# EAGLE library part IMS-A100 (library Transputers)
A100 Cascadable signal processor INMOS signal processor for digital image and filtering applications Source: The Digital Signal Processing Databook 1989. INMOS/SGS-Thomson Arto Kyyhkynen, artoky@dlc.fi
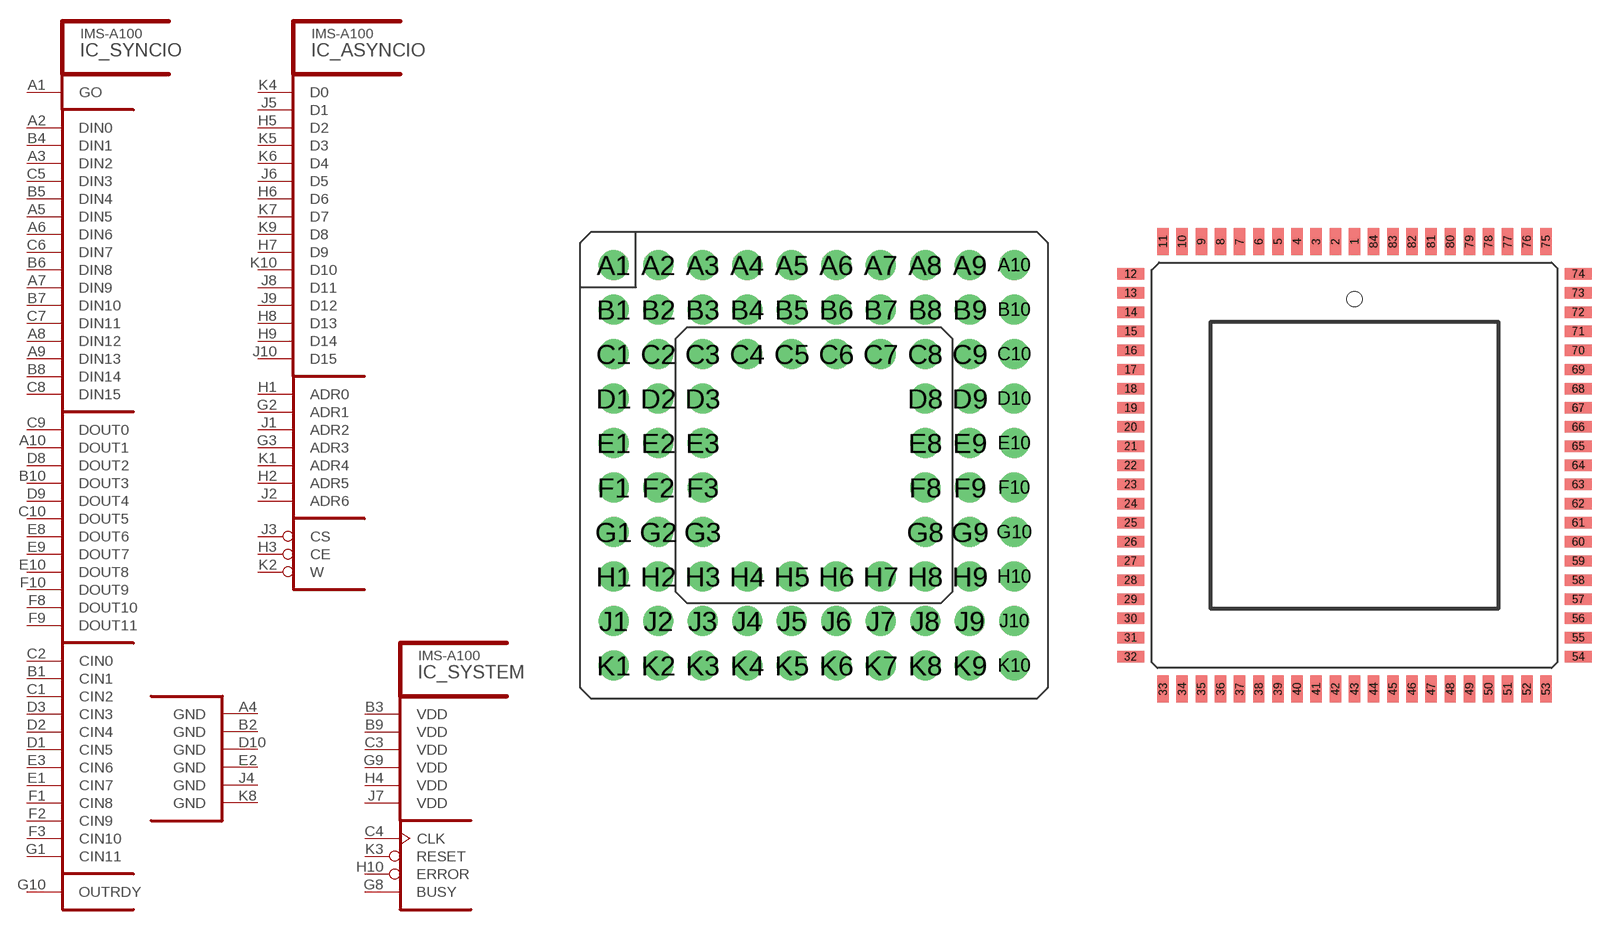
[diagram p28: symbol with the pads of PGA84; footprints PGA84, CLCC84]

Designator prefix IC; gates _ASYNCIO=A100_ASYNCIO _SYNCIO=A100_SYNCIO _SYSTEM=A100_SYSTEM

## IMS-A100M17G, IMS-A100M21G, IMS-A100S21G, IMS-A100S30G  [PGA84]
A1  _SYNCIO:GO
A2  _SYNCIO:DIN0  in
A3  _SYNCIO:DIN2  in
A4  _SYSTEM:GND  pwr
A5  _SYNCIO:DIN5  in
A6  _SYNCIO:DIN6  in
A7  _SYNCIO:DIN9  in
A8  _SYNCIO:DIN12  in
A9  _SYNCIO:DIN13  in
A10  _SYNCIO:DOUT1  out
B1  _SYNCIO:CIN1  in
B2  _SYSTEM:GND  pwr
B3  _SYSTEM:VDD  pwr
B4  _SYNCIO:DIN1  in
B5  _SYNCIO:DIN4  in
B6  _SYNCIO:DIN8  in
B7  _SYNCIO:DIN10  in
B8  _SYNCIO:DIN14  in
B9  _SYSTEM:VDD  pwr
B10  _SYNCIO:DOUT3  out
C1  _SYNCIO:CIN2  in
C2  _SYNCIO:CIN0  in
C3  _SYSTEM:VDD  pwr
C4  _SYSTEM:CLK  in
C5  _SYNCIO:DIN3  in
C6  _SYNCIO:DIN7  in
C7  _SYNCIO:DIN11  in
C8  _SYNCIO:DIN15  in
C9  _SYNCIO:DOUT0  out
C10  _SYNCIO:DOUT5  out
D1  _SYNCIO:CIN5  in
D2  _SYNCIO:CIN4  in
D3  _SYNCIO:CIN3  in
D8  _SYNCIO:DOUT2  out
D9  _SYNCIO:DOUT4  out
D10  _SYSTEM:GND  pwr
E1  _SYNCIO:CIN7  in
E2  _SYSTEM:GND  pwr
E3  _SYNCIO:CIN6  in
E8  _SYNCIO:DOUT6  out
E9  _SYNCIO:DOUT7  out
E10  _SYNCIO:DOUT8  out
F1  _SYNCIO:CIN8  in
F2  _SYNCIO:CIN9  in
F3  _SYNCIO:CIN10  in
F8  _SYNCIO:DOUT10  out
F9  _SYNCIO:DOUT11  out
F10  _SYNCIO:DOUT9  out
G1  _SYNCIO:CIN11  in
G2  _ASYNCIO:ADR1  in
G3  _ASYNCIO:ADR3  in
G8  _SYSTEM:BUSY  out
G9  _SYSTEM:VDD  pwr
G10  _SYNCIO:OUTRDY  out
H1  _ASYNCIO:ADR0  in
H2  _ASYNCIO:ADR5  in
H3  _ASYNCIO:CE  in
H4  _SYSTEM:VDD  pwr
H5  _ASYNCIO:D2
H6  _ASYNCIO:D6
H7  _ASYNCIO:D9
H8  _ASYNCIO:D13
H9  _ASYNCIO:D14
H10  _SYSTEM:ERROR  out
J1  _ASYNCIO:ADR2  in
J2  _ASYNCIO:ADR6  in
J3  _ASYNCIO:CS  in
J4  _SYSTEM:GND  pwr
J5  _ASYNCIO:D1
J6  _ASYNCIO:D5
J7  _SYSTEM:VDD  pwr
J8  _ASYNCIO:D11
J9  _ASYNCIO:D12
J10  _ASYNCIO:D15
K1  _ASYNCIO:ADR4  in
K2  _ASYNCIO:W  in
K3  _SYSTEM:RESET  in
K4  _ASYNCIO:D0
K5  _ASYNCIO:D3
K6  _ASYNCIO:D4
K7  _ASYNCIO:D7
K8  _SYSTEM:GND  pwr
K9  _ASYNCIO:D8
K10  _ASYNCIO:D10

## IMS-A100M21Q, IMS-A100S21Q  [CLCC84]
1  _SYNCIO:CIN8  in
2  _SYNCIO:CIN9  in
3  _SYNCIO:CIN10  in
4  _SYNCIO:CIN11  in
5  _ASYNCIO:ADR0  in
6  _ASYNCIO:ADR1  in
7  _ASYNCIO:ADR2  in
8  _ASYNCIO:ADR3  in
9  _ASYNCIO:ADR4  in
10  _ASYNCIO:ADR5  in
11  _ASYNCIO:ADR6  in
12  _ASYNCIO:CE  in
13  _ASYNCIO:CS  in
14  _ASYNCIO:W  in
15  _SYSTEM:RESET  in
16  _SYSTEM:VDD  pwr
17  _SYSTEM:GND  pwr
18  _ASYNCIO:D0
19  _ASYNCIO:D1
20  _ASYNCIO:D2
21  _ASYNCIO:D3
22  _ASYNCIO:D4
23  _ASYNCIO:D5
24  _ASYNCIO:D6
25  _ASYNCIO:D7
26  _SYSTEM:GND  pwr
27  _SYSTEM:VDD  pwr
28  _ASYNCIO:D8
29  _ASYNCIO:D9
30  _ASYNCIO:D10
31  _ASYNCIO:D11
32  _ASYNCIO:D12
33  _ASYNCIO:D13
34  _ASYNCIO:D14
35  _ASYNCIO:D15
36  _SYSTEM:ERROR  out
37  _SYSTEM:BUSY  out
38  _SYSTEM:VDD  pwr
39  _SYNCIO:OUTRDY  out
40  _SYNCIO:DOUT11  out
41  _SYNCIO:DOUT10  out
42  _SYNCIO:DOUT9  out
43  _SYNCIO:DOUT8  out
44  _SYNCIO:DOUT7  out
45  _SYNCIO:DOUT6  out
46  _SYSTEM:GND  pwr
47  _SYNCIO:DOUT5  out
48  _SYNCIO:DOUT4  out
49  _SYNCIO:DOUT3  out
50  _SYNCIO:DOUT2  out
51  _SYNCIO:DOUT1  out
52  _SYNCIO:DOUT0  out
53  _SYSTEM:VDD  pwr
54  _SYNCIO:DIN15  in
55  _SYNCIO:DIN14  in
56  _SYNCIO:DIN13  in
57  _SYNCIO:DIN12  in
58  _SYNCIO:DIN11  in
59  _SYNCIO:DIN10  in
60  _SYNCIO:DIN9  in
61  _SYNCIO:DIN8  in
62  _SYNCIO:DIN7  in
63  _SYNCIO:DIN6  in
64  _SYNCIO:DIN5  in
65  _SYNCIO:DIN4  in
66  _SYNCIO:DIN3  in
67  _SYSTEM:GND  pwr
68  _SYNCIO:DIN2  in
69  _SYNCIO:DIN1  in
70  _SYNCIO:DIN0  in
71  _SYSTEM:CLK  in
72  _SYNCIO:GO
73  _SYSTEM:VDD  pwr
74  _SYSTEM:GND  pwr
75  _SYSTEM:VDD  pwr
76  _SYNCIO:CIN0  in
77  _SYNCIO:CIN1  in
78  _SYNCIO:CIN2  in
79  _SYNCIO:CIN3  in
80  _SYNCIO:CIN4  in
81  _SYNCIO:CIN5  in
82  _SYSTEM:GND  pwr
83  _SYNCIO:CIN6  in
84  _SYNCIO:CIN7  in

## Footprint PGA84 (pad centres in mm)
Ceramic Pin Grid Array INMOS
drill 1.143 pad 1.676 round: A1 -11.43,11.43; A2 -8.89,11.43; A3 -6.35,11.43; A4 -3.81,11.43; A5 -1.27,11.43; A6 1.27,11.43; A7 3.81,11.43; A8 6.35,11.43; A9 8.89,11.43; A10 11.43,11.43; B1 -11.43,8.89; B2 -8.89,8.89; B3 -6.35,8.89; B4 -3.81,8.89; B5 -1.27,8.89; B6 1.27,8.89; B7 3.81,8.89; B8 6.35,8.89; B9 8.89,8.89; B10 11.43,8.89; C1 -11.43,6.35; C2 -8.89,6.35; C3 -6.35,6.35; C4 -3.81,6.35; C5 -1.27,6.35; C6 1.27,6.35; C7 3.81,6.35; C8 6.35,6.35; C9 8.89,6.35; C10 11.43,6.35; D1 -11.43,3.81; D2 -8.89,3.81; D3 -6.35,3.81; D8 6.35,3.81; D9 8.89,3.81; D10 11.43,3.81; E1 -11.43,1.27; E2 -8.89,1.27; E3 -6.35,1.27; E8 6.35,1.27; E9 8.89,1.27; E10 11.43,1.27; F1 -11.43,-1.27; F2 -8.89,-1.27; F3 -6.35,-1.27; F8 6.35,-1.27; F9 8.89,-1.27; F10 11.43,-1.27; G1 -11.43,-3.81; G2 -8.89,-3.81; G3 -6.35,-3.81; G8 6.35,-3.81; G9 8.89,-3.81; G10 11.43,-3.81; H1 -11.43,-6.35; H2 -8.89,-6.35; H3 -6.35,-6.35; H4 -3.81,-6.35; H5 -1.27,-6.35; H6 1.27,-6.35; H7 3.81,-6.35; H8 6.35,-6.35; H9 8.89,-6.35; H10 11.43,-6.35; J1 -11.43,-8.89; J2 -8.89,-8.89; J3 -6.35,-8.89; J4 -3.81,-8.89; J5 -1.27,-8.89; J6 1.27,-8.89; J7 3.81,-8.89; J8 6.35,-8.89; J9 8.89,-8.89; J10 11.43,-8.89; K1 -11.43,-11.43; K2 -8.89,-11.43; K3 -6.35,-11.43; K4 -3.81,-11.43; K5 -1.27,-11.43; K6 1.27,-11.43; K7 3.81,-11.43; K8 6.35,-11.43; K9 8.89,-11.43; K10 11.43,-11.43

## Footprint CLCC84 (pad centres in mm)
Ceramic Quad Cerpack
smd 0.76 x 1.8: 1 0,14.845; 2 -1.27,14.845; 3 -2.54,14.845; 4 -3.81,14.845; 5 -5.08,14.845; 6 -6.35,14.845; 7 -7.62,14.845; 8 -8.89,14.845; 9 -10.16,14.845; 10 -11.43,14.845; 11 -12.7,14.845; 33 -12.7,-14.845; 34 -11.43,-14.845; 35 -10.16,-14.845; 36 -8.89,-14.845; 37 -7.62,-14.845; 38 -6.35,-14.845; 39 -5.08,-14.845; 40 -3.81,-14.845; 41 -2.54,-14.845; 42 -1.27,-14.845; 43 0,-14.845; 44 1.27,-14.845; 45 2.54,-14.845; 46 3.81,-14.845; 47 5.08,-14.845; 48 6.35,-14.845; 49 7.62,-14.845; 50 8.89,-14.845; 51 10.16,-14.845; 52 11.43,-14.845; 53 12.7,-14.845; 75 12.7,14.845; 76 11.43,14.845; 77 10.16,14.845; 78 8.89,14.845; 79 7.62,14.845; 80 6.35,14.845; 81 5.08,14.845; 82 3.81,14.845; 83 2.54,14.845; 84 1.27,14.845
smd 1.8 x 0.76: 12 -14.845,12.7; 13 -14.845,11.43; 14 -14.845,10.16; 15 -14.845,8.89; 16 -14.845,7.62; 17 -14.845,6.35; 18 -14.845,5.08; 19 -14.845,3.81; 20 -14.845,2.54; 21 -14.845,1.27; 22 -14.845,0; 23 -14.845,-1.27; 24 -14.845,-2.54; 25 -14.845,-3.81; 26 -14.845,-5.08; 27 -14.845,-6.35; 28 -14.845,-7.62; 29 -14.845,-8.89; 30 -14.845,-10.16; 31 -14.845,-11.43; 32 -14.845,-12.7; 54 14.845,-12.7; 55 14.845,-11.43; 56 14.845,-10.16; 57 14.845,-8.89; 58 14.845,-7.62; 59 14.845,-6.35; 60 14.845,-5.08; 61 14.845,-3.81; 62 14.845,-2.54; 63 14.845,-1.27; 64 14.845,0; 65 14.845,1.27; 66 14.845,2.54; 67 14.845,3.81; 68 14.845,5.08; 69 14.845,6.35; 70 14.845,7.62; 71 14.845,8.89; 72 14.845,10.16; 73 14.845,11.43; 74 14.845,12.7